# Altium footprint library PcbLib1.PcbLib: 15 footprints
Each footprint in its own frame and in the unit in brackets; x right, y up, seen from the top. Pads: shape width x height; smd on the part's side, far side on the other; paste and mask are expansions set on the pad; w line width, h text height; cw(c..) or ccw(c..) is an arc to the next point about the centre after c.
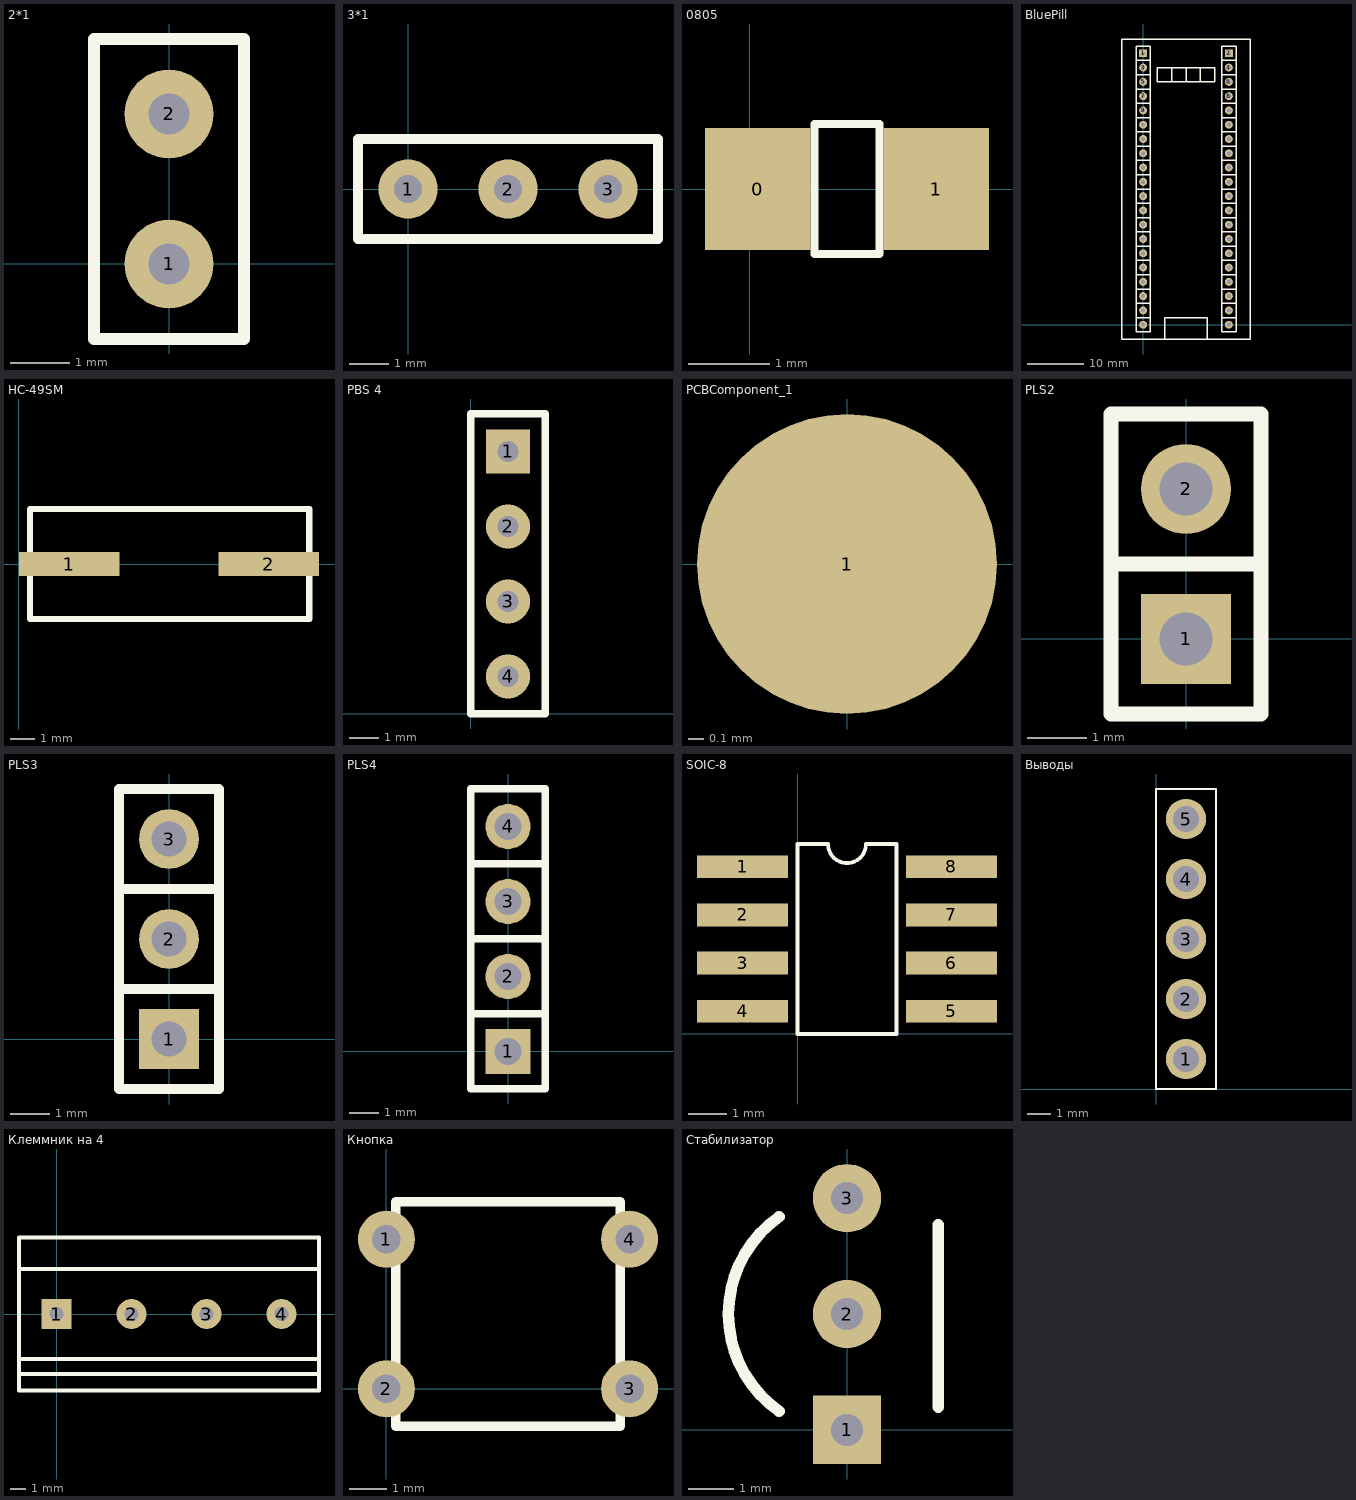
[diagram p0: the footprints below, top view; thin cyan lines are the x and y axes]

## 2*1 [mm]
pads (2):
  round 1.5 hole 0.7: 1(0,0) 2(0,2.54)
Top Overlay:
  lines w0.2: -1.27,-1.27 1.27,-1.27 1.27,3.81 -1.27,3.81 -1.27,-1.27

## 3*1 [mm]
pads (3):
  round 1.5 hole 0.7: 1(0,0) 2(2.54,0) 3(5.08,0)
Top Overlay:
  lines w0.254: -1.27,-1.27 6.35,-1.27 6.35,1.27 -1.27,1.27 -1.27,-1.27

## 0805 [mm]
pads (2):
  rect 1.3x1.5 smd: 0(0.1,0) 1(2.3,0)
Top Overlay:
  lines w0.1: 0.8,-0.8 0.8,0.8 1.6,0.8 1.6,-0.8 0.8,-0.8

## BluePill [mm]
pads (40):
  rect 1.4x1.4 hole 0.7: 1(0,48.26) 2(15.24,48.26)
  round 1.4 hole 0.7: 3(0,45.72) 4(15.24,45.72) 5(0,43.18) 6(15.24,43.18) 7(0,40.64) 8(15.24,40.64) 9(0,38.1) 10(15.24,38.1) 11(0,35.56) 12(15.24,35.56) 13(0,33.02) 14(15.24,33.02) 15(0,30.48) 16(15.24,30.48) 17(0,27.94) 18(15.24,27.94) 19(0,25.4) 20(15.24,25.4) 21(0,22.86) 22(15.24,22.86) 23(0,20.32) 24(15.24,20.32) 25(0,17.78) 26(15.24,17.78) 27(0,15.24) 28(15.24,15.24) 29(0,12.7) 30(15.24,12.7) 31(0,10.16) 32(15.24,10.16) 33(0,7.62) 34(15.24,7.62) 35(0,5.08) 36(15.24,5.08) 37(0,2.54) 38(15.24,2.54) 39(0,0) 40(15.24,0)
Top Overlay:
  lines w0.254: -1.27,1.27 1.27,1.27 ; -1.27,6.35 1.27,6.35 ; -1.27,11.43 1.27,11.43 ; -1.27,16.51 1.27,16.51 ; -1.27,21.59 1.27,21.59 ; -1.27,26.67 1.27,26.67 ; -1.27,31.75 1.27,31.75 ; -1.27,36.83 1.27,36.83 ; -1.27,41.91 1.27,41.91 ; -1.27,46.99 1.27,46.99 ; 3.81,-2.54 3.81,1.27 11.43,1.27 11.43,-2.54 ; 13.97,1.27 16.51,1.27 ; 13.97,6.35 16.51,6.35 ; 13.97,11.43 16.51,11.43 ; 13.97,16.51 16.51,16.51 ; 13.97,21.59 16.51,21.59 ; 13.97,26.67 16.51,26.67 ; 13.97,31.75 16.51,31.75 ; 13.97,36.83 16.51,36.83 ; 13.97,41.91 16.51,41.91 ; 13.97,46.99 16.51,46.99 ; -1.27,3.81 1.27,3.81 ; -1.27,3.81 -1.27,-1.27 1.27,-1.27 1.27,3.81 ; -1.27,3.81 -1.27,8.89 ; -1.27,8.89 -1.27,13.97 ; -1.27,8.89 1.27,8.89 ; -1.27,13.97 1.27,13.97 ; -1.27,13.97 -1.27,19.05 ; -1.27,19.05 -1.27,24.13 ; -1.27,19.05 1.27,19.05 ; -1.27,24.13 1.27,24.13 ; -1.27,24.13 -1.27,29.21 ; -1.27,29.21 -1.27,34.29 ; -1.27,29.21 1.27,29.21 ; -1.27,34.29 1.27,34.29 ; -1.27,34.29 -1.27,39.37 ; -1.27,39.37 -1.27,44.45 ; -1.27,39.37 1.27,39.37 ; -1.27,44.45 1.27,44.45 ; -1.27,44.45 -1.27,49.53 1.27,49.53 1.27,44.45 ; 1.27,3.81 1.27,8.89 ; 1.27,8.89 1.27,13.97 ; 1.27,13.97 1.27,19.05 ; 1.27,19.05 1.27,24.13 ; 1.27,24.13 1.27,29.21 ; 1.27,29.21 1.27,34.29 ; 1.27,34.29 1.27,39.37 ; 1.27,39.37 1.27,44.45 ; 5.08,43.18 2.54,43.18 2.54,45.72 5.08,45.72 ; 5.08,43.18 5.08,45.72 ; 5.08,43.18 7.62,43.18 ; 5.08,43.18 5.08,45.72 ; 5.08,45.72 7.62,45.72 ; 7.62,43.18 7.62,45.72 ; 7.62,43.18 10.16,43.18 ; 7.62,43.18 7.62,45.72 ; 7.62,45.72 10.16,45.72 ; 10.16,43.18 10.16,45.72 ; 10.16,43.18 12.7,43.18 12.7,45.72 10.16,45.72 ; 10.16,43.18 10.16,45.72 ; 13.97,3.81 13.97,8.89 ; 13.97,3.81 13.97,-1.27 16.51,-1.27 16.51,3.81 ; 13.97,3.81 16.51,3.81 ; 13.97,8.89 16.51,8.89 ; 13.97,8.89 13.97,13.97 ; 13.97,13.97 13.97,19.05 ; 13.97,13.97 16.51,13.97 ; 13.97,19.05 16.51,19.05 ; 13.97,19.05 13.97,24.13 ; 13.97,24.13 13.97,29.21 ; 13.97,24.13 16.51,24.13 ; 13.97,29.21 16.51,29.21 ; 13.97,29.21 13.97,34.29 ; 13.97,34.29 13.97,39.37 ; 13.97,34.29 16.51,34.29 ; 13.97,39.37 16.51,39.37 ; 13.97,39.37 13.97,44.45 ; 13.97,44.45 13.97,49.53 16.51,49.53 16.51,44.45 ; 13.97,44.45 16.51,44.45 ; 16.51,3.81 16.51,8.89 ; 16.51,8.89 16.51,13.97 ; 16.51,13.97 16.51,19.05 ; 16.51,19.05 16.51,24.13 ; 16.51,24.13 16.51,29.21 ; 16.51,29.21 16.51,34.29 ; 16.51,34.29 16.51,39.37 ; 16.51,39.37 16.51,44.45 ; -3.81,-2.54 -3.81,50.8 19.05,50.8 19.05,-2.54 -3.81,-2.54

## HC-49SM [mm]
pads (2):
  rect 4.1x1 smd: 1(2.05,0) 2(10.2,0)
Top Overlay:
  lines w0.254: 0.45,-0.5 0.45,-2.25 11.85,-2.25 11.85,-0.5 ; 0.45,0.5 0.45,2.25 11.85,2.25 11.85,0.5

## PBS 4 [mm]
pads (4):
  rect 1.5x1.5 hole 0.7: 1(1.27,8.89)
  round 1.5 hole 0.7: 2(1.27,6.35) 3(1.27,3.81) 4(1.27,1.27)
Top Overlay:
  lines w0.254: 0,0 2.54,0 2.54,5.08 2.54,10.16 0,10.16 0,5.08 0,0

## PCBComponent_1 [mm]
pads (1):
  round 2 smd: 1(0,0)

## PLS2 [mil]
pads (2):
  rect 60x60 hole 35.43: 1(0,0)
  round 60 hole 35.43: 2(0,100)
Top Overlay:
  lines w10: -50,50 0,50 50,50 ; -50,-50 -50,150 0,150 50,150 50,-50 0,-50 -50,-50

## PLS3 [mil]
pads (3):
  rect 60x60 hole 35.43: 1(0,0)
  round 60 hole 35.43: 2(0,100) 3(0,200)
Top Overlay:
  lines w10: -50,50 0,50 50,50 ; -50,150 0,150 50,150 ; -50,-50 -50,250 0,250 50,250 50,-50 0,-50 -50,-50

## PLS4 [mil]
pads (4):
  rect 60x60 hole 35.43: 1(0,0)
  round 60 hole 35.43: 2(0,100) 3(0,200) 4(0,300)
Top Overlay:
  lines w10: -50,50 0,50 50,50 ; -50,150 0,150 50,150 ; -50,250 0,250 50,250 ; -50,-50 0,-50 50,-50 50,350 0,350 -50,350 -50,-50

## SOIC-8 [mm]
pads (8):
  rect 2.4x0.6 smd: 1(-1.45,4.405) 2(-1.45,3.135) 3(-1.45,1.865) 4(-1.45,0.595) 5(4.05,0.595) 6(4.05,1.865) 7(4.05,3.135) 8(4.05,4.405)
Top Overlay:
  lines w0.1: 0,0 2.6,0 2.6,5 1.8,5 cw(c1.3,5) 0.8,5 0,5 0,0

## Выводы [mm]
pads (5):
  round 1.7 hole 1.1: 1(1.27,1.27) 2(1.27,3.81) 3(1.27,6.35) 4(1.27,8.89) 5(1.27,11.43)
Top Overlay:
  lines w0.1: 0,0 0,12.7 2.54,12.7 2.54,0 0,0

## Клеммник на 4 [mm]
pads (4):
  rect 2x2 hole 0.9: 1(0,0)
  round 2 hole 0.9: 2(5,0) 3(10,0) 4(15,0)
Top Overlay:
  lines w0.254: -2.5,-4 17.5,-4 ; -2.5,-3 17.5,-3 ; -2.5,3 17.5,3 ; -2.5,-5.1 -2.5,0 -2.5,5.1 17.5,5.1 17.5,0 17.5,-5.1 -2.5,-5.1

## Кнопка [mil]
pads (4):
  round 60 hole 30: 1(0,157.48) 2(0,0) 3(255.91,0) 4(255.91,157.48)
Top Overlay:
  lines w10: 9.84,-39.37 246.06,-39.37 246.06,196.85 9.84,196.85 9.84,-39.37

## Стабилизатор [mm]
pads (3):
  rect 1.5x1.5 hole 0.7: 1(0,0)
  round 1.5 hole 0.7: 2(0,2.54) 3(0,5.08)
Top Overlay:
  lines w0.254: -1.491,0.41 cw(c0,2.54) -1.491,4.67 ; 2,0.5 2,2.5 ; 2,3.5 2,2.5 ; 2,4.5 2,2.5